# EAGLE library part PAD_SMD_6X1 (library _zlacza)
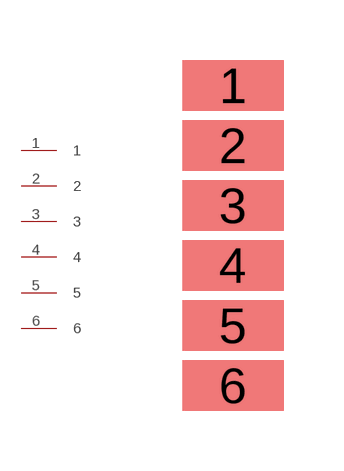
[diagram p0: symbol with the pads of SMD_6X1; footprint SMD_6X1]

Designator prefix -

## PAD_SMD_6X1  [SMD_6X1]
1  1
2  2
3  3
4  4
5  5
6  6

## Footprint SMD_6X1 (pad centres in mm)
smd 2.54 x 1.27: 1 2.54,0.57; 2 2.54,-0.93; 3 2.54,-2.43; 4 2.54,-3.93; 5 2.54,-5.43; 6 2.54,-6.93